# EAGLE library part LTC6957-* (library Analog Devices)
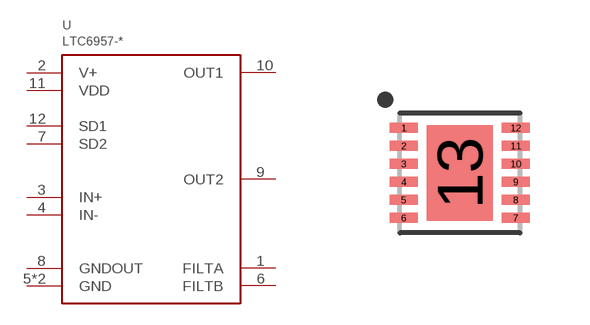
[diagram p53: symbol with the pads of DFN12; footprint DFN12]

Designator prefix U

## LTC6957-3, LTC6957-4  [DFN12]
1  FILTA
2  V+
3  IN+
4  IN-
5  GND
6  FILTB
7  SD2
8  GNDOUT
9  OUT2
10  OUT1
11  VDD
12  SD1
13  GND

## Footprint DFN12 (pad centres in mm)
smd 0.7 x 0.25: 1 -1.4,1.125; 2 -1.4,0.675; 3 -1.4,0.225; 4 -1.4,-0.225; 5 -1.4,-0.675; 6 -1.4,-1.126; 7 1.4,-1.125; 8 1.4,-0.675; 9 1.4,-0.225; 10 1.4,0.225; 11 1.4,0.675; 12 1.4,1.125
smd 1.65 x 2.38: 13 0,0